# EAGLE library part M2X17 (library FiveVolt)
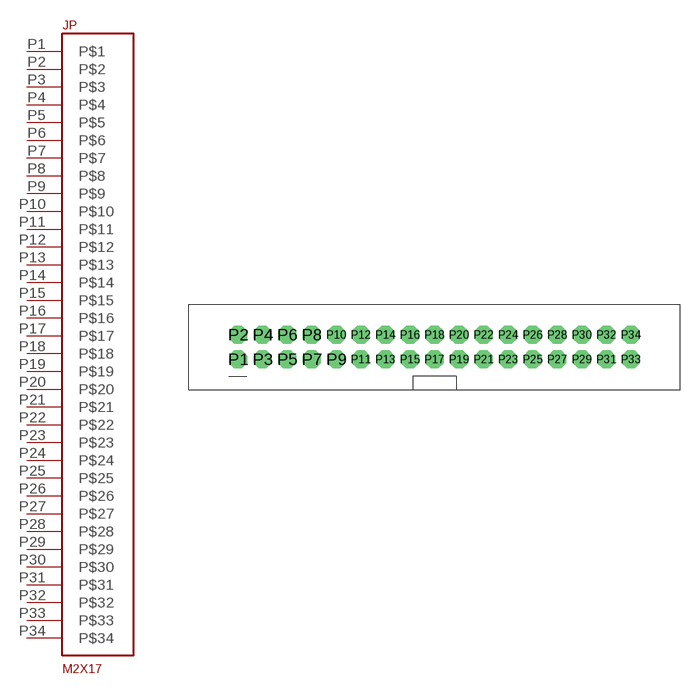
[diagram p13: symbol with the pads of 2X17; footprint 2X17]

Designator prefix JP

## M2X17  [2X17]
P1  P$1
P2  P$2
P3  P$3
P4  P$4
P5  P$5
P6  P$6
P7  P$7
P8  P$8
P9  P$9
P10  P$10
P11  P$11
P12  P$12
P13  P$13
P14  P$14
P15  P$15
P16  P$16
P17  P$17
P18  P$18
P19  P$19
P20  P$20
P21  P$21
P22  P$22
P23  P$23
P24  P$24
P25  P$25
P26  P$26
P27  P$27
P28  P$28
P29  P$29
P30  P$30
P31  P$31
P32  P$32
P33  P$33
P34  P$34

## Footprint 2X17 (pad centres in mm)
drill 1.016 pad 1.88 octagon: P1 -20.32,-1.27; P2 -20.32,1.27; P3 -17.78,-1.27; P4 -17.78,1.27; P5 -15.24,-1.27; P6 -15.24,1.27; P7 -12.7,-1.27; P8 -12.7,1.27; P9 -10.16,-1.27; P10 -10.16,1.27; P11 -7.62,-1.27; P12 -7.62,1.27; P13 -5.08,-1.27; P14 -5.08,1.27; P15 -2.54,-1.27; P16 -2.54,1.27; P17 0,-1.27; P18 0,1.27; P19 2.54,-1.27; P20 2.54,1.27; P21 5.08,-1.27; P22 5.08,1.27; P23 7.62,-1.27; P24 7.62,1.27; P25 10.16,-1.27; P26 10.16,1.27; P27 12.7,-1.27; P28 12.7,1.27; P29 15.24,-1.27; P30 15.24,1.27; P31 17.78,-1.27; P32 17.78,1.27; P33 20.32,-1.27; P34 20.32,1.27